# EAGLE library part 66201621122 (library Wire_to_Board_Connectors_rev15d)
WR-MPC3 3.00mm Male Dual Row Vertical Header, 16 Pins=>Code : Con_WTB_MPC3_2_PCB_THT_66201621122 <http://katalog.we-online.de/media/thumbs2/eican/thb_Con_WTB_MPC3_2_PCB_THT_6620xx21122_pf2.jpg> Details see: http://katalog.we-online.de/en/em/662_0xx_211_22 Created 2014-06-06, Karrer Zheng 2014 (C) Würth Elektronik
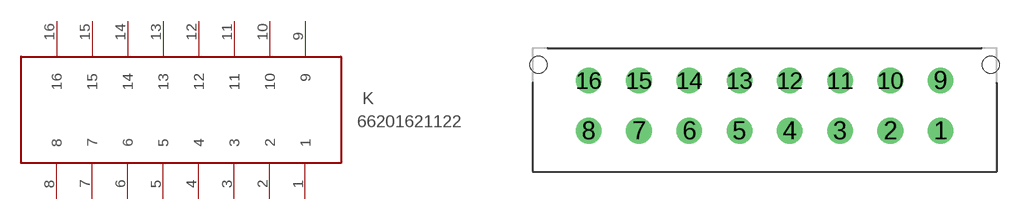
[diagram p375: symbol with the pads of 66201621122; footprint 66201621122]

Designator prefix K

## 66201621122  [66201621122]
1  1
2  2
3  3
4  4
5  5
6  6
7  7
8  8
9  9
10  10
11  11
12  12
13  13
14  14
15  15
16  16

## Footprint 66201621122 (pad centres in mm)
WR-MPC3-3.00mm Male Dual Row Vertical Header,16 pins
drill 1.02: 1 10.5,-1.5; 2 7.5,-1.5; 3 4.5,-1.5; 4 1.5,-1.5; 5 -1.5,-1.5; 6 -4.5,-1.5; 7 -7.5,-1.5; 8 -10.5,-1.5; 9 10.5,1.5; 10 7.5,1.5; 11 4.5,1.5; 12 1.5,1.5; 13 -1.5,1.5; 14 -4.5,1.5; 15 -7.5,1.5; 16 -10.5,1.5
hole 1.02 at -13.5,2.44
hole 1.02 at 13.5,2.44